# Altium footprint library Passives.PcbLib: 53 footprints (part 4 of 4)
Each footprint in its own frame and in the unit in brackets; x right, y up, seen from the top. Pads: shape width x height; smd on the part's side, far side on the other; paste and mask are expansions set on the pad; w line width, h text height; cw(c..) or ccw(c..) is an arc to the next point about the centre after c.
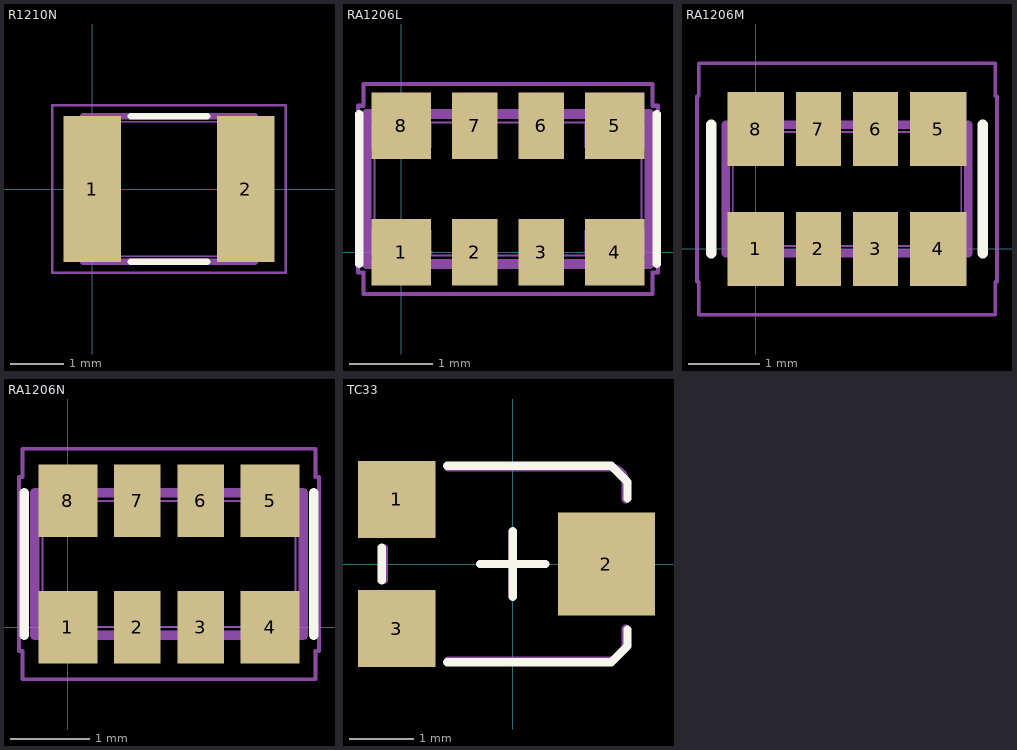
[diagram p3: the footprints below, top view; thin cyan lines are the x and y axes]

## R1210N [mm]
height 0.7
pads (2):
  rect 1.07x2.72 smd: 1(0,0) 2(2.86,0)
Top Overlay:
  lines w0.12: 0.715,-1.35 2.145,-1.35 ; 0.715,1.35 2.145,1.35
Assembly Top:
  lines w0.12: -0.17,-1.35 -0.17,1.35 3.03,1.35 3.03,-1.35 -0.17,-1.35
3D Top:
  lines w0.025: -0.12,-1.25 -0.12,1.25 ; -0.12,-1.25 2.98,-1.25 ; -0.12,-1.25 0.38,-1.25 0.38,1.25 -0.12,1.25 ; -0.12,-1.25 -0.12,1.25 ; -0.12,1.25 2.98,1.25 ; 2.98,-1.25 2.98,1.25 ; 2.98,-1.25 2.98,1.25 ; 2.98,-1.25 2.48,-1.25 2.48,1.25 2.98,1.25
Courtyard Top:
  circle w0.05: c0,0 r0.25
  lines w0.05: -0.35,0 0.35,0 ; 0,-0.35 0,0.35 ; -0.74,-1.56 -0.74,1.56 3.6,1.56 3.6,-1.56 -0.74,-1.56
3D body: height 0.7, standoff 0, extent -0.12,-1.25 2.98,1.25

## RA1206L [mm]
height 0.6
pads (8):
  rect 0.71x0.8 smd: 1(0,0) 4(2.56,0) 5(2.56,1.52) 8(0,1.52)
  rect 0.55x0.8 smd: 2(0.88,0) 3(1.68,0) 6(1.68,1.52) 7(0.88,1.52)
Top Overlay:
  lines w0.1: -0.505,-0.14 -0.505,1.66 ; 3.065,-0.14 3.065,1.66
Assembly Top:
  lines w0.12: -0.42,-0.14 2.98,-0.14 2.98,1.66 -0.42,1.66 -0.42,-0.14
3D Top:
  lines w0.025: -0.35,-0.04 -0.35,0.26 0.35,0.26 0.35,-0.04 -0.35,-0.04 ; -0.35,1.26 -0.35,1.56 0.35,1.56 0.35,1.26 -0.35,1.26 ; -0.32,-0.04 2.88,-0.04 2.88,1.56 -0.32,1.56 -0.32,-0.04 ; 0.63,-0.04 0.63,0.26 1.13,0.26 1.13,-0.04 0.63,-0.04 ; 0.63,1.26 0.63,1.56 1.13,1.56 1.13,1.26 0.63,1.26 ; 1.43,-0.04 1.43,0.26 1.93,0.26 1.93,-0.04 1.43,-0.04 ; 1.43,1.26 1.43,1.56 1.93,1.56 1.93,1.26 1.43,1.26 ; 2.21,-0.04 2.21,0.26 2.91,0.26 2.91,-0.04 2.21,-0.04 ; 2.21,1.26 2.21,1.56 2.91,1.56 2.91,1.26 2.21,1.26
Courtyard Top:
  circle w0.05: c0,0 r0.25
  lines w0.05: -0.35,0 0.35,0 ; 0,-0.35 0,0.35 ; -0.52,-0.24 -0.455,-0.24 -0.455,-0.5 3.015,-0.5 3.015,-0.24 3.08,-0.24 3.08,1.76 3.015,1.76 3.015,2.02 -0.455,2.02 -0.455,1.76 -0.52,1.76 -0.52,-0.24
3D body: height 0.6, standoff 0, extent -0.35,-0.09 2.91,1.61

## RA1206M [mm]
height 0.6
pads (8):
  rect 0.79x1.04 smd: 1(0,0) 4(2.56,0) 5(2.56,1.68) 8(0,1.68)
  rect 0.63x1.04 smd: 2(0.88,0) 3(1.68,0) 6(1.68,1.68) 7(0.88,1.68)
Top Overlay:
  lines w0.15: -0.62,-0.06 -0.62,1.74 ; 3.18,-0.06 3.18,1.74
Assembly Top:
  lines w0.12: -0.42,-0.06 -0.42,1.74 2.98,1.74 2.98,-0.06 -0.42,-0.06
3D Top:
  lines w0.025: -0.35,0.04 0.35,0.04 0.35,0.34 -0.35,0.34 -0.35,0.04 ; -0.35,1.34 0.35,1.34 0.35,1.64 -0.35,1.64 -0.35,1.34 ; -0.32,0.04 -0.32,1.64 2.88,1.64 2.88,0.04 -0.32,0.04 ; 0.63,0.04 1.13,0.04 1.13,0.34 0.63,0.34 0.63,0.04 ; 0.63,1.34 1.13,1.34 1.13,1.64 0.63,1.64 0.63,1.34 ; 1.43,0.04 1.93,0.04 1.93,0.34 1.43,0.34 1.43,0.04 ; 1.43,1.34 1.93,1.34 1.93,1.64 1.43,1.64 1.43,1.34 ; 2.21,0.04 2.91,0.04 2.91,0.34 2.21,0.34 2.21,0.04 ; 2.21,1.34 2.91,1.34 2.91,1.64 2.21,1.64 2.21,1.34
Courtyard Top:
  circle w0.05: c0,0 r0.25
  lines w0.05: -0.35,0 0.35,0 ; 0,-0.35 0,0.35 ; -0.82,-0.46 -0.82,2.14 -0.795,2.14 -0.795,2.6 3.355,2.6 3.355,2.14 3.38,2.14 3.38,-0.46 3.355,-0.46 3.355,-0.92 -0.795,-0.92 -0.795,-0.46 -0.82,-0.46
3D body: height 0.6, standoff 0, extent -0.35,-0.014 2.91,1.686

## RA1206N [mm]
height 0.6
pads (8):
  rect 0.75x0.92 smd: 1(0,0) 4(2.56,0) 5(2.56,1.6) 8(0,1.6)
  rect 0.59x0.92 smd: 2(0.88,0) 3(1.68,0) 6(1.68,1.6) 7(0.88,1.6)
Top Overlay:
  lines w0.12: -0.555,-0.1 -0.555,1.7 ; 3.115,-0.1 3.115,1.7
Assembly Top:
  lines w0.12: -0.42,-0.1 -0.42,1.7 2.98,1.7 2.98,-0.1 -0.42,-0.1
3D Top:
  lines w0.025: -0.35,0 0.35,0 0.35,0.3 -0.35,0.3 -0.35,0 ; -0.35,1.3 0.35,1.3 0.35,1.6 -0.35,1.6 -0.35,1.3 ; -0.32,0 -0.32,1.6 2.88,1.6 2.88,0 -0.32,0 ; 0.63,0 1.13,0 1.13,0.3 0.63,0.3 0.63,0 ; 0.63,1.3 1.13,1.3 1.13,1.6 0.63,1.6 0.63,1.3 ; 1.43,0 1.93,0 1.93,0.3 1.43,0.3 1.43,0 ; 1.43,1.3 1.93,1.3 1.93,1.6 1.43,1.6 1.43,1.3 ; 2.21,0 2.91,0 2.91,0.3 2.21,0.3 2.21,0 ; 2.21,1.3 2.91,1.3 2.91,1.6 2.21,1.6 2.21,1.3
Courtyard Top:
  circle w0.05: c0,0 r0.25
  lines w0.05: -0.35,0 0.35,0 ; 0,-0.35 0,0.35 ; -0.62,-0.3 -0.62,1.9 -0.575,1.9 -0.575,2.26 3.135,2.26 3.135,1.9 3.18,1.9 3.18,-0.3 3.135,-0.3 3.135,-0.66 -0.575,-0.66 -0.575,-0.3 -0.62,-0.3
3D body: height 0.6, standoff 0, extent -0.35,-0.065 2.91,1.635

## TC33 [mm]
pads (3):
  rect 1.2x1.2 smd: 1(-1.8,1) 3(-1.8,-1)
  rect 1.5x1.6 smd: 2(1.45,0)
Top Overlay:
  lines w0.127: -2.032,-0.254 -2.032,0.254 ; -1.016,-1.524 1.524,-1.524 1.778,-1.27 1.778,-1.016 ; -1.016,1.524 1.524,1.524 1.778,1.27 1.778,1.016 ; -0.508,0 0.508,0 ; 0,-0.508 0,0.508
Mechanical 22:
  lines w0.127: -2,-0.25 -2,0.25 ; -1,-1.5 1.496,-1.5 ; -1,1.5 1.496,1.5 cw(c1.496,1.246) 1.75,1.246 1.75,1 ; -0.5,0 0.5,0 ; 0,-0.5 0,0.5 ; 1.75,-1.246 1.75,-1
3D body: height 1.13, standoff -0.02, extent -2.116,-1.8 1.847,1.8